# Altium schematic symbol library Amplifier_Current.SchLib: 81 symbols
Pins are listed as number, name and electrical type; pins without a type are passive.

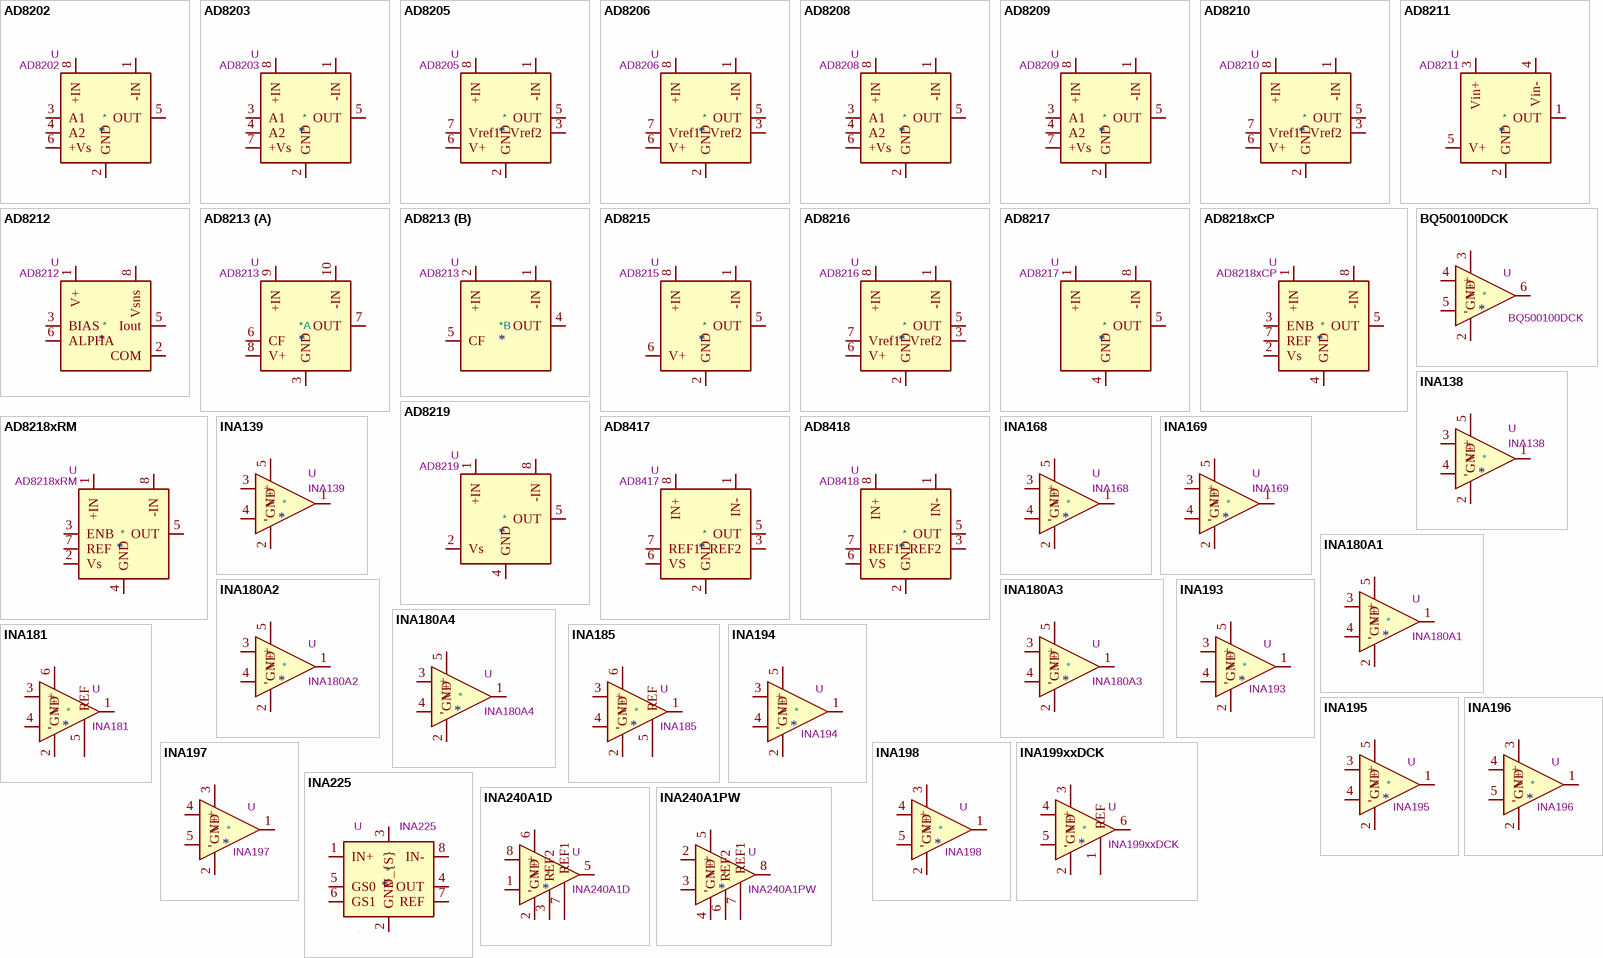
[diagram p0: symbols AD8202 to INA240A1PW]

## AD8202
designator *  value AD8202  Reference: U
ki_keywords: highside HS current sense amplifier linear buffered monitor preamp; ki_description: 28V High Common-Mode Voltage, Single-Supply Difference Amplifier, 10V/V x 2V/V adjustable gain, bandwidth 50kHz, Vcc=3.5V~12V, unidirectional, SOIC-8/MSOP-8; ki_fp_filters: SOIC*P1.27mm* MSOP*P0.65mm*; Datasheet: https://www.analog.com/media/en/technical-documentation/data-sheets/AD8202.pdf
pins: 1 -IN, 2 GND, 3 A1, 4 A2, 5 OUT, 6 +Vs, 7 NC hidden, 8 +IN

## AD8203
designator *  value AD8203  Reference: U
ki_keywords: highside HS current sense amplifier linear buffered monitor preamp; ki_description: 30V High Common-Mode Voltage, Single-Supply Difference Amplifier, 7V/V x 2V/V adjustable gain, bandwidth 60kHz, Vcc=3.5V~12V, unidirectional, SOIC-8/MSOP-8; ki_fp_filters: SOIC*P1.27mm* MSOP*P0.65mm*; Datasheet: https://www.analog.com/media/en/technical-documentation/data-sheets/AD8203.pdf
pins: 1 -IN, 2 GND, 3 A1, 4 A2, 5 OUT, 6 NC hidden, 7 +Vs, 8 +IN

## AD8205
designator *  value AD8205  Reference: U
ki_keywords: highside HS difference amplifier linear buffered; ki_description: 65V Single-Supply, System Difference Amplifier, 50V/V gain, bandwidth 50kHz, Vcc=5V, SOIC-8; ki_fp_filters: SOIC*3.9x4.9mm*P1.27mm*; Footprint: Package_SO:SOIC-8_3.9x4.9mm_P1.27mm; Datasheet: https://www.analog.com/media/en/technical-documentation/data-sheets/AD8205.pdf
pins: 1 -IN, 2 GND, 3 Vref2, 4 NC hidden, 5 OUT, 6 V+, 7 Vref1, 8 +IN

## AD8206
designator *  value AD8206  Reference: U
ki_keywords: highside HS current sense amplifier linear buffered; ki_description: 65V High Common-Mode Voltage, Bidirectional, Current Shunt Amplifier, 20V/V gain, bandwidth 100kHz, Vcc=5V, SOIC-8; ki_fp_filters: SOIC*3.9x4.9mm*P1.27mm*; Footprint: Package_SO:SOIC-8_3.9x4.9mm_P1.27mm; Datasheet: https://www.analog.com/media/en/technical-documentation/data-sheets/AD8206.pdf
pins: 1 -IN, 2 GND, 3 Vref2, 4 NC hidden, 5 OUT, 6 V+, 7 Vref1, 8 +IN

## AD8208
designator *  value AD8208  Reference: U
ki_keywords: highside HS current sense amplifier linear buffered monitor preamp; ki_description: 45V High Voltage, Precision Difference Amplifier, 10V/V x 2V/V adjustable gain, bandwidth 70kHz, Vcc=5V, unidirectional, SOIC-8/MSOP-8; ki_fp_filters: SOIC*P1.27mm* MSOP*P0.65mm*; Datasheet: https://www.analog.com/media/en/technical-documentation/data-sheets/AD8208.pdf
pins: 1 -IN, 2 GND, 3 A1, 4 A2, 5 OUT, 6 +Vs, 7 NC hidden, 8 +IN

## AD8209
designator *  value AD8209  Reference: U
ki_keywords: highside HS current sense amplifier linear buffered monitor preamp; ki_description: 45V High Voltage, Precision Difference Amplifier, 7V/V x 2V/V adjustable gain, bandwidth 80kHz, Vcc=5V, unidirectional, MSOP-8; ki_fp_filters: SOIC*P1.27mm* MSOP*P0.65mm*; Datasheet: https://www.analog.com/media/en/technical-documentation/data-sheets/AD8209.pdf
pins: 1 -IN, 2 GND, 3 A1, 4 A2, 5 OUT, 6 NC hidden, 7 +Vs, 8 +IN

## AD8210
designator *  value AD8210  Reference: U
ki_keywords: highside HS current sense amplifier linear buffered; ki_description: 65V High Voltage, Bidirectional Current Shunt Monitor, 20V/V gain, bandwidth 450kHz, Vcc=5V, SOIC-8; ki_fp_filters: SOIC*3.9x4.9mm*P1.27mm*; Footprint: Package_SO:SOIC-8_3.9x4.9mm_P1.27mm; Datasheet: https://www.analog.com/media/en/technical-documentation/data-sheets/AD8210.pdf
pins: 1 -IN, 2 GND, 3 Vref2, 4 NC hidden, 5 OUT, 6 V+, 7 Vref1, 8 +IN

## AD8211
designator *  value AD8211  Reference: U
ki_keywords: highside HS current sense amplifier linear buffered; ki_description: 65V High Voltage, Current Shunt Monitor, 20V/V gain, bandwidth 500kHz, Vcc=5V, SOT-23-5; ki_fp_filters: SOT?23*; Footprint: Package_TO_SOT_SMD:SOT-23-5; Datasheet: https://www.analog.com/media/en/technical-documentation/data-sheets/AD8211.pdf
pins: 1 OUT, 2 GND, 3 Vin+, 4 Vin-, 5 V+

## AD8212
designator *  value AD8212  Reference: U
ki_keywords: highside HS current sense shunt monitor amplifier linear; ki_description: 65V High Voltage Current, Shunt Monitor, adjustable gain, bandwidth 1000kHz, Vcc=7V~65V, current output, unidirectional, MSOP-8; ki_fp_filters: MSOP*3x3mm*P0.65mm*; Footprint: Package_SO:MSOP-8_3x3mm_P0.65mm; Datasheet: https://www.analog.com/media/en/technical-documentation/data-sheets/AD8212.pdf
pins: 1 V+, 2 COM, 3 BIAS, 4 NC hidden, 5 Iout, 6 ALPHA, 7 NC hidden, 8 Vsns

## AD8213
designator *  value AD8213  Reference: U
ki_keywords: highside HS current sense amplifier linear buffered dual monitor; ki_description: 65V Dual, High Voltage, Current Shunt Monitor, 20V/V gain, bandwidth 500kHz, Vcc=5V, MSOP-10; ki_fp_filters: MSOP*3x3mm*P0.5mm*; Footprint: Package_SO:MSOP-10_3x3mm_P0.5mm; Datasheet: https://www.analog.com/media/en/technical-documentation/data-sheets/AD8213.pdf
part A pins: 3 GND, 6 CF, 7 OUT, 8 V+, 9 +IN, 10 -IN
part B pins: 1 -IN, 2 +IN, 4 OUT, 5 CF

## AD8215
designator *  value AD8215  Reference: U
ki_keywords: highside HS current sense amplifier linear buffered monitor; ki_description: 65V High Voltage, Current Shunt Monitor, 20V/V gain, bandwidth 450kHz, Vcc=5V, unidirectional, SOIC-8; ki_fp_filters: SOIC*3.9x4.9mm*P1.27mm*; Footprint: Package_SO:SOIC-8_3.9x4.9mm_P1.27mm; Datasheet: https://www.analog.com/media/en/technical-documentation/data-sheets/AD8215.pdf
pins: 1 -IN, 2 GND, 3 NC hidden, 4 NC hidden, 5 OUT, 6 V+, 7 NC hidden, 8 +IN

## AD8216
designator *  value AD8216  Reference: U
ki_keywords: HS difference amplifier linear; ki_description: 65V High Bandwidth, Bidirectional Difference Amplifier, 3V/V gain, bandwidth 3MHz, Vcc=5V, SOIC-8; ki_fp_filters: SOIC*3.9x4.9mm*P1.27mm*; Footprint: Package_SO:SOIC-8_3.9x4.9mm_P1.27mm; Datasheet: https://www.analog.com/media/en/technical-documentation/data-sheets/AD8216.pdf
pins: 1 -IN, 2 GND, 3 Vref2, 4 NC hidden, 5 OUT, 6 V+, 7 Vref1, 8 +IN

## AD8217
designator *  value AD8217  Reference: U
ki_keywords: highside HS current sense amplifier linear buffered monitor; ki_description: 80V High Resolution, Zero-Drift, Current Shunt Monitor, 20V/V gain, bandwidth 500kHz, internal LDO, unidirectional, MSOP-8; ki_fp_filters: MSOP*3x3mm*P0.65mm*; Footprint: Package_SO:MSOP-8_3x3mm_P0.65mm; Datasheet: https://www.analog.com/media/en/technical-documentation/data-sheets/AD8217.pdf
pins: 1 +IN, 2 NC hidden, 3 NC hidden, 4 GND, 5 OUT, 6 NC hidden, 7 NC hidden, 8 -IN

## AD8218xCP
designator *  value AD8218xCP  Reference: U
ki_keywords: highside HS current sense amplifier linear buffered; ki_description: 80V Zero Drift, Bidirectional, Current Shunt Monitor, 20V/V gain, bandwidth 450kHz, Vcc=5V, LFCSP-8; ki_fp_filters: LFCSP*1EP*3x2mm*P0.5mm*; Footprint: Package_CSP:LFCSP-8-1EP_3x2mm_P0.5mm_EP1.6x1.65mm; Datasheet: https://www.analog.com/media/en/technical-documentation/data-sheets/AD8218.pdf
pins: 1 +IN, 2 Vs, 3 ENB, 4 GND, 5 OUT, 6 NC hidden, 7 REF, 8 -IN, 9 GND hidden

## AD8218xRM
designator *  value AD8218xRM  Reference: U
ki_keywords: highside HS current sense amplifier linear buffered; ki_description: 80V Zero Drift, Bidirectional, Current Shunt Monitor, 20V/V gain, bandwidth 450kHz, Vcc=5V, MSOP-8; ki_fp_filters: MSOP*3x3mm*P0.65mm*; Footprint: Package_SO:MSOP-8_3x3mm_P0.65mm; Datasheet: https://www.analog.com/media/en/technical-documentation/data-sheets/AD8218.pdf
pins: 1 +IN, 2 Vs, 3 ENB, 4 GND, 5 OUT, 6 NC hidden, 7 REF, 8 -IN

## AD8219
designator *  value AD8219  Reference: U
ki_keywords: highside HS current sense amplifier linear buffered monitor; ki_description: 80V Zero Drift, Unidirectional, Current Shunt Monitor, 60V/V gain, bandwidth 500kHz, Vcc=4V~80V, MSOP-8; ki_fp_filters: MSOP*3x3mm*P0.65mm*; Footprint: Package_SO:MSOP-8_3x3mm_P0.65mm; Datasheet: https://www.analog.com/media/en/technical-documentation/data-sheets/AD8219.pdf
pins: 1 +IN, 2 Vs, 3 NC hidden, 4 GND, 5 OUT, 6 NC hidden, 7 NC hidden, 8 -IN

## AD8417
designator *  value AD8417  Reference: U
ki_keywords: highside HS current sense amplifier linear; ki_description: 70V Bidirectional, Zero Drift, Current Sense Amplifier, 60V/V gain, bandwidth 250kHz, VS=2.7V~5.5V, SOIC-8/MSOP-8; ki_fp_filters: SOIC*3.9x4.9mm*P1.27mm* MSOP*3x3mm*P0.65mm*; Datasheet: https://www.analog.com/media/en/technical-documentation/data-sheets/AD8417.pdf
pins: 1 IN-, 2 GND, 3 REF2, 4 NC hidden, 5 OUT, 6 VS, 7 REF1, 8 IN+

## AD8418
designator *  value AD8418  Reference: U
ki_keywords: highside HS current sense amplifier linear; ki_description: 70V Bidirectional, Zero Drift, Current Sense Amplifier, 20V/V gain, bandwidth 250kHz, VS=2.7V~5.5V, SOIC-8/MSOP-8; ki_fp_filters: SOIC*3.9x4.9mm*P1.27mm* MSOP*3x3mm*P0.65mm*; Datasheet: https://www.analog.com/media/en/technical-documentation/data-sheets/AD8418.pdf
pins: 1 IN-, 2 GND, 3 REF2, 4 NC hidden, 5 OUT, 6 VS, 7 REF1, 8 IN+

## BQ500100DCK
designator *  value BQ500100DCK  Reference: U
ki_keywords: Current shunt monitor; ki_description: 20V High side current sensor, Voltage Output, 50V/V Gain, SC-70-6; ki_fp_filters: SOT?363*; Footprint: Package_TO_SOT_SMD:SOT-363_SC-70-6; Datasheet: http://www.ti.com/lit/ds/symlink/bq500100.pdf
pins: 1 GND hidden, 2 GND, 3 V+, 4 +, 5 -, 6

## INA138
designator *  value INA138  Reference: U
ki_keywords: current sense shunt monitor; ki_description: High-Side Measurement Current Shunt Monitor, 36V, SOT-23-5; ki_fp_filters: SOT?23*; Footprint: Package_TO_SOT_SMD:SOT-23-5; Datasheet: http://www.ti.com/lit/ds/symlink/ina138.pdf
pins: 1, 2 GND, 3 +, 4 -, 5 V+

## INA139
designator *  value INA139  Reference: U
ki_keywords: current sense shunt monitor; ki_description: High-Side Measurement Current Shunt Monitor, 40V, SOT-23-5; ki_fp_filters: SOT?23*; Footprint: Package_TO_SOT_SMD:SOT-23-5; Datasheet: http://www.ti.com/lit/ds/symlink/ina169.pdf
pins: 1, 2 GND, 3 +, 4 -, 5 V+

## INA168
designator *  value INA168  Reference: U
ki_keywords: current sense shunt monitor; ki_description: High-Side Measurement Current Shunt Monitor, 60V, SOT-23-5; ki_fp_filters: SOT?23*; Footprint: Package_TO_SOT_SMD:SOT-23-5; Datasheet: http://www.ti.com/lit/ds/symlink/ina138.pdf
pins: 1, 2 GND, 3 +, 4 -, 5 V+

## INA169
designator *  value INA169  Reference: U
ki_keywords: current sense shunt monitor; ki_description: High-Side Measurement Current Shunt Monitor, 60V, SOT-23-5; ki_fp_filters: SOT?23*; Footprint: Package_TO_SOT_SMD:SOT-23-5; Datasheet: http://www.ti.com/lit/ds/symlink/ina169.pdf
pins: 1, 2 GND, 3 +, 4 -, 5 V+

## INA180A1
designator *  value INA180A1  Reference: U
ki_keywords: current monitor shunt sensor; ki_description: Current Sense Amplifier, 1 Circuit, Rail-to-Rail, 26V, Gain 20 V/V, SOT-23-5; ki_fp_filters: SOT?23*; Footprint: Package_TO_SOT_SMD:SOT-23-5; Datasheet: http://www.ti.com/lit/ds/symlink/ina180.pdf
pins: 1, 2 GND, 3 +, 4 -, 5 V+

## INA180A2
designator *  value INA180A2  Reference: U
ki_keywords: current monitor shunt sensor; ki_description: Current Sense Amplifier, 1 Circuit, Rail-to-Rail, 26V, Gain 50 V/V, SOT-23-5; ki_fp_filters: SOT?23*; Footprint: Package_TO_SOT_SMD:SOT-23-5; Datasheet: http://www.ti.com/lit/ds/symlink/ina180.pdf
pins: 1, 2 GND, 3 +, 4 -, 5 V+

## INA180A3
designator *  value INA180A3  Reference: U
ki_keywords: current monitor shunt sensor; ki_description: Current Sense Amplifier, 1 Circuit, Rail-to-Rail, 26V, Gain 100 V/V, SOT-23-5; ki_fp_filters: SOT?23*; Footprint: Package_TO_SOT_SMD:SOT-23-5; Datasheet: http://www.ti.com/lit/ds/symlink/ina180.pdf
pins: 1, 2 GND, 3 +, 4 -, 5 V+

## INA180A4
designator *  value INA180A4  Reference: U
ki_keywords: current monitor shunt sensor; ki_description: Current Sense Amplifier, 1 Circuit, Rail-to-Rail, 26V, Gain 200 V/V, SOT-23-5; ki_fp_filters: SOT?23*; Footprint: Package_TO_SOT_SMD:SOT-23-5; Datasheet: http://www.ti.com/lit/ds/symlink/ina180.pdf
pins: 1, 2 GND, 3 +, 4 -, 5 V+

## INA181
designator *  value INA181  Reference: U
ki_keywords: current monitor shunt sensor bidirectional; ki_description: Bidirectional, Low- and High-Side Voltage Output, Current-Sense Amplifier, SOT-23-6; ki_fp_filters: SOT?23*; Footprint: Package_TO_SOT_SMD:SOT-23-6; Datasheet: http://www.ti.com/lit/ds/symlink/ina181.pdf
pins: 1, 2 GND, 3 +, 4 -, 5 REF, 6 V+

## INA185
designator *  value INA185  Reference: U
ki_keywords: current monitor shunt sensor bidirectional; ki_description: Ultra-small, bidirectional, precision low-side and high-side, voltage output current-sense amplifier (SOT-563); ki_fp_filters: SOT*563*; Footprint: Package_TO_SOT_SMD:SOT-563; Datasheet: https://www.ti.com/lit/ds/symlink/ina185.pdf
pins: 1, 2 GND, 3 +, 4 -, 5 REF, 6 V+

## INA193
designator *  value INA193  Reference: U
ki_keywords: current sense shunt monitor; ki_description: Current Shunt Monitor −16V to +80V Common-Mode Range, 20V/V, SOT-23-5; ki_fp_filters: SOT?23*; Footprint: Package_TO_SOT_SMD:SOT-23-5; Datasheet: http://www.ti.com/lit/ds/symlink/ina193.pdf
pins: 1, 2 GND, 3 +, 4 -, 5 V+

## INA194
designator *  value INA194  Reference: U
ki_keywords: current sense shunt monitor; ki_description: Current Shunt Monitor −16V to +80V Common-Mode Range, 50V/V, SOT-23-5; ki_fp_filters: SOT?23*; Footprint: Package_TO_SOT_SMD:SOT-23-5; Datasheet: http://www.ti.com/lit/ds/symlink/ina193.pdf
pins: 1, 2 GND, 3 +, 4 -, 5 V+

## INA195
designator *  value INA195  Reference: U
ki_keywords: current sense shunt monitor; ki_description: Current Shunt Monitor −16V to +80V Common-Mode Range, 100V/V, SOT-23-5; ki_fp_filters: SOT?23*; Footprint: Package_TO_SOT_SMD:SOT-23-5; Datasheet: http://www.ti.com/lit/ds/symlink/ina193.pdf
pins: 1, 2 GND, 3 +, 4 -, 5 V+

## INA196
designator *  value INA196  Reference: U
ki_keywords: current sense shunt monitor; ki_description: Current Shunt Monitor −16V to +80V Common-Mode Range, 20V/V, SOT-23-5; ki_fp_filters: SOT?23*; Footprint: Package_TO_SOT_SMD:SOT-23-5; Datasheet: http://www.ti.com/lit/ds/symlink/ina193.pdf
pins: 1, 2 GND, 3 V+, 4 +, 5 -

## INA197
designator *  value INA197  Reference: U
ki_keywords: current sense shunt monitor; ki_description: Current Shunt Monitor −16V to +80V Common-Mode Range, 50V/V, SOT-23-5; ki_fp_filters: SOT?23*; Footprint: Package_TO_SOT_SMD:SOT-23-5; Datasheet: http://www.ti.com/lit/ds/symlink/ina193.pdf
pins: 1, 2 GND, 3 V+, 4 +, 5 -

## INA198
designator *  value INA198  Reference: U
ki_keywords: current sense shunt monitor; ki_description: Current Shunt Monitor −16V to +80V Common-Mode Range, 100V/V, SOT-23-5; ki_fp_filters: SOT?23*; Footprint: Package_TO_SOT_SMD:SOT-23-5; Datasheet: http://www.ti.com/lit/ds/symlink/ina193.pdf
pins: 1, 2 GND, 3 V+, 4 +, 5 -

## INA199xxDCK
designator *  value INA199xxDCK  Reference: U
ki_keywords: current monitor shunt sensor bidirectional; ki_description: INA199 26-V, Bidirectional, Zero-Drift, Low- or High-Side, Voltage-Output, Current-Shunt Monitor, SOT-363, SC-70; ki_fp_filters: *SC?70*; Footprint: Package_TO_SOT_SMD:SOT-363_SC-70-6; Datasheet: http://www.ti.com/lit/ds/symlink/ina199.pdf
pins: 1 REF, 2 GND, 3 V+, 4 +, 5 -, 6

## INA225
designator *  value INA225  Reference: U
ki_keywords: voltage-output current-sense amplifier shunt; ki_description: 36-V, Bidirectional Current Sense Amplifier, With Four Pin-Selectable Gain Settings, VSSOP-8; ki_fp_filters: VSSOP*3.0x3.0mm*P0.65mm*; Footprint: Package_SO:VSSOP-8_3.0x3.0mm_P0.65mm; Datasheet: https://www.ti.com/lit/ds/symlink/ina225-q1.pdf
pins: 1 IN+, 2 GND, 3 V_{S}, 4 OUT, 5 GS0, 6 GS1, 7 REF, 8 IN-

## INA240A1D
designator *  value INA240A1D  Reference: U
ki_keywords: current monitor shunt sensor bidirectional high low; ki_description: High- and Low-Side, Bidirectional, Zero-Drift, Current-Sense Amplifier With Enhanced PWM Rejection, 20V/V, SOIC-8; ki_fp_filters: SOIC*3.9x4.9mm*P1.27mm*; Footprint: Package_SO:SOIC-8_3.9x4.9mm_P1.27mm; Datasheet: http://www.ti.com/lit/ds/symlink/ina240.pdf
pins: 1 -, 2 GND, 3 REF2, 4 GND hidden, 5, 6 V+, 7 REF1, 8 +

## INA240A1PW
designator *  value INA240A1PW  Reference: U
ki_keywords: current monitor shunt sensor bidirectional high low; ki_description: High- and Low-Side, Bidirectional, Zero-Drift, Current-Sense Amplifier With Enhanced PWM Rejection, 20V/V, TSSOP-8; ki_fp_filters: TSSOP*4.4x3mm*P0.65mm*; Footprint: Package_SO:TSSOP-8_4.4x3mm_P0.65mm; Datasheet: http://www.ti.com/lit/ds/symlink/ina240.pdf
pins: 1 GND hidden, 2 +, 3 -, 4 GND, 5 V+, 6 REF2, 7 REF1, 8

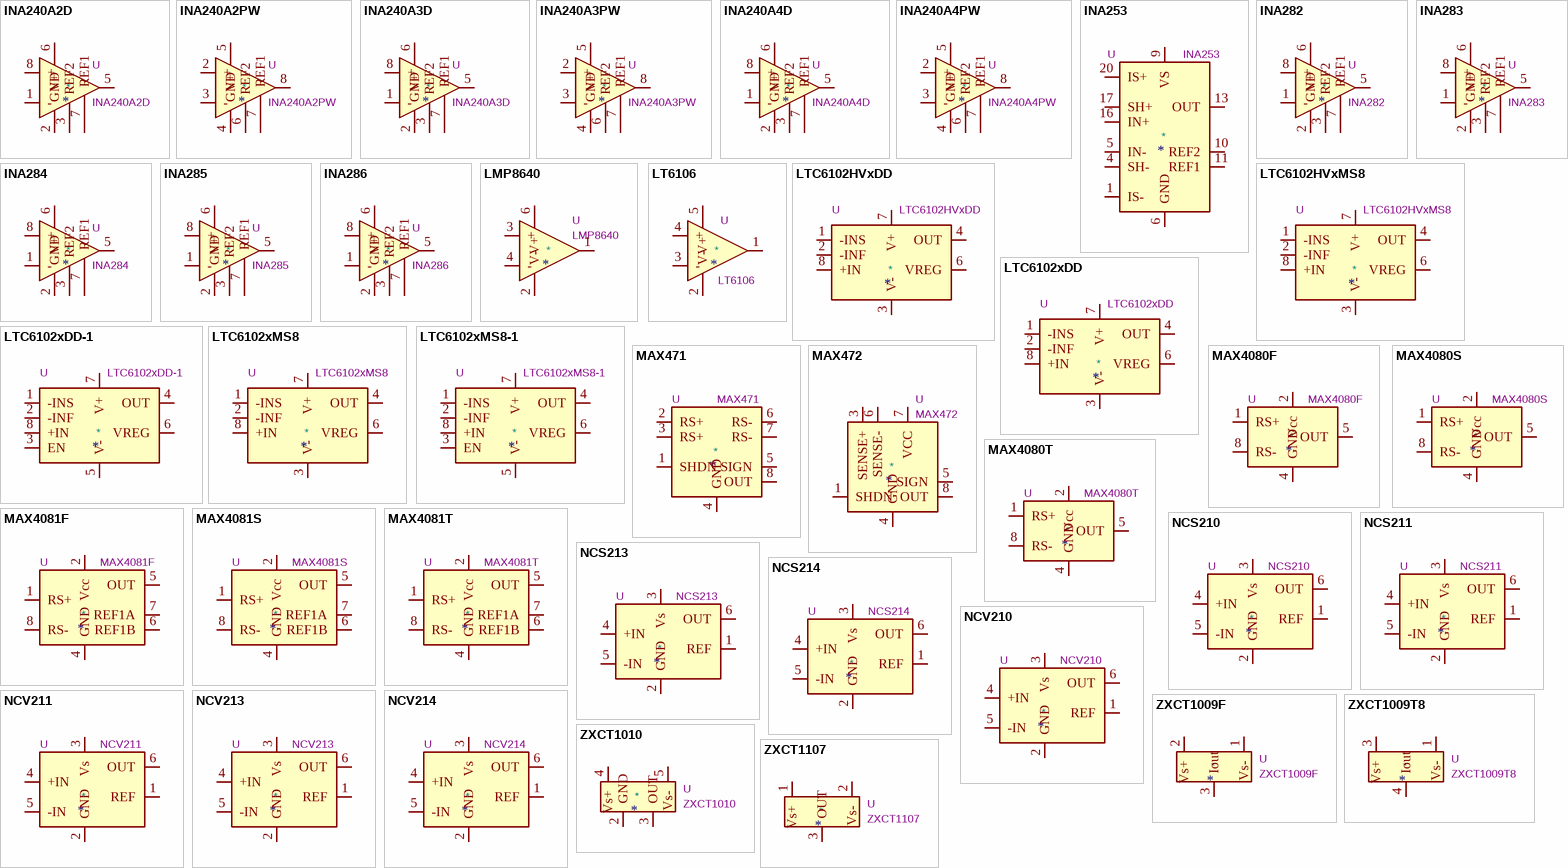
[diagram p1: symbols INA240A2D to ZXCT1107]

## INA240A2D
designator *  value INA240A2D  Reference: U
ki_keywords: current monitor shunt sensor bidirectional high low; ki_description: High- and Low-Side, Bidirectional, Zero-Drift, Current-Sense Amplifier With Enhanced PWM Rejection, 50V/V, SOIC-8; ki_fp_filters: SOIC*3.9x4.9mm*P1.27mm*; Footprint: Package_SO:SOIC-8_3.9x4.9mm_P1.27mm; Datasheet: http://www.ti.com/lit/ds/symlink/ina240.pdf
pins: 1 -, 2 GND, 3 REF2, 4 GND hidden, 5, 6 V+, 7 REF1, 8 +

## INA240A2PW
designator *  value INA240A2PW  Reference: U
ki_keywords: current monitor shunt sensor bidirectional high low; ki_description: High- and Low-Side, Bidirectional, Zero-Drift, Current-Sense Amplifier With Enhanced PWM Rejection, 50V/V, TSSOP-8; ki_fp_filters: TSSOP*4.4x3mm*P0.65mm*; Footprint: Package_SO:TSSOP-8_4.4x3mm_P0.65mm; Datasheet: http://www.ti.com/lit/ds/symlink/ina240.pdf
pins: 1 GND hidden, 2 +, 3 -, 4 GND, 5 V+, 6 REF2, 7 REF1, 8

## INA240A3D
designator *  value INA240A3D  Reference: U
ki_keywords: current monitor shunt sensor bidirectional high low; ki_description: High- and Low-Side, Bidirectional, Zero-Drift, Current-Sense Amplifier With Enhanced PWM Rejection, 100V/V, SOIC-8; ki_fp_filters: SOIC*3.9x4.9mm*P1.27mm*; Footprint: Package_SO:SOIC-8_3.9x4.9mm_P1.27mm; Datasheet: http://www.ti.com/lit/ds/symlink/ina240.pdf
pins: 1 -, 2 GND, 3 REF2, 4 GND hidden, 5, 6 V+, 7 REF1, 8 +

## INA240A3PW
designator *  value INA240A3PW  Reference: U
ki_keywords: current monitor shunt sensor bidirectional high low; ki_description: High- and Low-Side, Bidirectional, Zero-Drift, Current-Sense Amplifier With Enhanced PWM Rejection, 100V/V, TSSOP-8; ki_fp_filters: TSSOP*4.4x3mm*P0.65mm*; Footprint: Package_SO:TSSOP-8_4.4x3mm_P0.65mm; Datasheet: http://www.ti.com/lit/ds/symlink/ina240.pdf
pins: 1 GND hidden, 2 +, 3 -, 4 GND, 5 V+, 6 REF2, 7 REF1, 8

## INA240A4D
designator *  value INA240A4D  Reference: U
ki_keywords: current monitor shunt sensor bidirectional high low; ki_description: High- and Low-Side, Bidirectional, Zero-Drift, Current-Sense Amplifier With Enhanced PWM Rejection, 200V/V, SOIC-8; ki_fp_filters: SOIC*3.9x4.9mm*P1.27mm*; Footprint: Package_SO:SOIC-8_3.9x4.9mm_P1.27mm; Datasheet: http://www.ti.com/lit/ds/symlink/ina240.pdf
pins: 1 -, 2 GND, 3 REF2, 4 GND hidden, 5, 6 V+, 7 REF1, 8 +

## INA240A4PW
designator *  value INA240A4PW  Reference: U
ki_keywords: current monitor shunt sensor bidirectional high low; ki_description: High- and Low-Side, Bidirectional, Zero-Drift, Current-Sense Amplifier With Enhanced PWM Rejection, 200V/V, TSSOP-8; ki_fp_filters: TSSOP*4.4x3mm*P0.65mm*; Footprint: Package_SO:TSSOP-8_4.4x3mm_P0.65mm; Datasheet: http://www.ti.com/lit/ds/symlink/ina240.pdf
pins: 1 GND hidden, 2 +, 3 -, 4 GND, 5 V+, 6 REF2, 7 REF1, 8

## INA253
designator *  value INA253  Reference: U
ki_keywords: shunt current amplifier bidirectional; ki_description: High Voltage, Bidirectional, Zero-Drift, Current-ShuntMonitor With Integrated, 2-mΩ, Precision, Low Inductive Shunt Resistor, TSSOP-20; ki_fp_filters: TSSOP*4.4x6.5mm*P0.65mm*; Footprint: Package_SO:TSSOP-20_4.4x6.5mm_P0.65mm; Datasheet: http://www.ti.com/lit/ds/symlink/ina253.pdf
pins: 1 IS-, 2 IS- hidden, 3 IS- hidden, 4 SH-, 5 IN-, 6 GND, 7 DNC1 hidden, 8 NC hidden, 9 VS, 10 REF2, 11 REF1, 12 NC hidden, 13 OUT, 14 DNC2 hidden, 15 GND hidden, 16 IN+, 17 SH+, 18 IS+ hidden, 19 IS+ hidden, 20 IS+

## INA282
designator *  value INA282  Reference: U
ki_keywords: current monitor shunt sensor bidirectional; ki_description: High-Accuracy, Wide Common-Mode Range, Bidirectional Current Shunt Monitors, Zero-Drift Series, 50V/V, SOIC-8/VSSOP-8; ki_fp_filters: SOIC*3.9x4.9mm*P1.27mm* MSOP*3x3mm*P0.65mm*; Datasheet: http://www.ti.com/lit/ds/symlink/ina282.pdf
pins: 1 -, 2 GND, 3 REF2, 4 NC hidden, 5, 6 V+, 7 REF1, 8 +

## INA283
designator *  value INA283  Reference: U
ki_keywords: current monitor shunt sensor bidirectional; ki_description: High-Accuracy, Wide Common-Mode Range, Bidirectional Current Shunt Monitors, Zero-Drift Series, 200V/V, SOIC-8/VSSOP-8; ki_fp_filters: SOIC*3.9x4.9mm*P1.27mm* MSOP*3x3mm*P0.65mm*; Datasheet: http://www.ti.com/lit/ds/symlink/ina282.pdf
pins: 1 -, 2 GND, 3 REF2, 4 NC hidden, 5, 6 V+, 7 REF1, 8 +

## INA284
designator *  value INA284  Reference: U
ki_keywords: current monitor shunt sensor bidirectional; ki_description: High-Accuracy, Wide Common-Mode Range, Bidirectional Current Shunt Monitors, Zero-Drift Series, 500V/V, SOIC-8/VSSOP-8; ki_fp_filters: SOIC*3.9x4.9mm*P1.27mm* MSOP*3x3mm*P0.65mm*; Datasheet: http://www.ti.com/lit/ds/symlink/ina282.pdf
pins: 1 -, 2 GND, 3 REF2, 4 NC hidden, 5, 6 V+, 7 REF1, 8 +

## INA285
designator *  value INA285  Reference: U
ki_keywords: current monitor shunt sensor bidirectional; ki_description: High-Accuracy, Wide Common-Mode Range, Bidirectional Current Shunt Monitors, Zero-Drift Series, 1000V/V, SOIC-8/VSSOP-8; ki_fp_filters: SOIC*3.9x4.9mm*P1.27mm* MSOP*3x3mm*P0.65mm*; Datasheet: http://www.ti.com/lit/ds/symlink/ina282.pdf
pins: 1 -, 2 GND, 3 REF2, 4 NC hidden, 5, 6 V+, 7 REF1, 8 +

## INA286
designator *  value INA286  Reference: U
ki_keywords: current monitor shunt sensor bidirectional; ki_description: High-Accuracy, Wide Common-Mode Range, Bidirectional Current Shunt Monitors, Zero-Drift Series, 100V/V, SOIC-8/VSSOP-8; ki_fp_filters: SOIC*3.9x4.9mm*P1.27mm* MSOP*3x3mm*P0.65mm*; Datasheet: http://www.ti.com/lit/ds/symlink/ina282.pdf
pins: 1 -, 2 GND, 3 REF2, 4 NC hidden, 5, 6 V+, 7 REF1, 8 +

## LMP8640
designator *  value LMP8640  Reference: U
ki_keywords: current monitor shunt sensor; ki_description: Precision High Voltage Current Sense Amplifiers, 42V/76V, SOT-23-6; ki_fp_filters: SOT?23*; Footprint: Package_TO_SOT_SMD:SOT-23-6; Datasheet: http://www.ti.com/lit/ds/symlink/lmp8640.pdf
pins: 1, 2 V-, 3 +, 4 -, 6 V+

## LT6106
designator *  value LT6106  Reference: U
ki_keywords: current sense; ki_description: 36V Low Cost, High Side Current Sense, SOT-23-5; ki_fp_filters: SOT?23*; Footprint: Package_TO_SOT_SMD:SOT-23-5; Datasheet: https://www.analog.com/media/en/technical-documentation/data-sheets/6106fb.pdf
pins: 1, 2 V-, 3 -, 4 +, 5 V+

## LTC6102HVxDD
designator *  value LTC6102HVxDD  Reference: U
ki_keywords: current sense amplifier; ki_description: Precision Zero Drift Current Sense Amplifier, 100V, DFN-8; ki_fp_filters: DFN*3x3mm*P0.5mm*; Footprint: Package_DFN_QFN:DFN-8-1EP_3x3mm_P0.5mm_EP1.66x2.38mm; Datasheet: https://www.analog.com/media/en/technical-documentation/data-sheets/6102fe.pdf
pins: 1 -INS, 2 -INF, 3 V-, 4 OUT, 5 V- hidden, 6 VREG, 7 V+, 8 +IN, 9 V- hidden

## LTC6102HVxMS8
designator *  value LTC6102HVxMS8  Reference: U
ki_keywords: current sense amplifier; ki_description: Precision Zero Drift Current Sense Amplifier, 100V, MSOP-8; ki_fp_filters: MSOP*3x3mm*P0.65mm*; Footprint: Package_SO:MSOP-8_3x3mm_P0.65mm; Datasheet: https://www.analog.com/media/en/technical-documentation/data-sheets/6102fe.pdf
pins: 1 -INS, 2 -INF, 3 V-, 4 OUT, 5 V- hidden, 6 VREG, 7 V+, 8 +IN

## LTC6102xDD
designator *  value LTC6102xDD  Reference: U
ki_keywords: current sense amplifier; ki_description: Precision Zero Drift Current Sense Amplifier, 60V, DFN-8; ki_fp_filters: DFN*3x3mm*P0.5mm*; Footprint: Package_DFN_QFN:DFN-8-1EP_3x3mm_P0.5mm_EP1.66x2.38mm; Datasheet: https://www.analog.com/media/en/technical-documentation/data-sheets/6102fe.pdf
pins: 1 -INS, 2 -INF, 3 V-, 4 OUT, 5 V- hidden, 6 VREG, 7 V+, 8 +IN, 9 V- hidden

## LTC6102xDD-1
designator *  value LTC6102xDD-1  Reference: U
ki_keywords: current sense amplifier; ki_description: Precision Zero Drift Current Sense Amplifier, 60V, DFN-8; ki_fp_filters: DFN*3x3mm*P0.5mm*; Footprint: Package_DFN_QFN:DFN-8-1EP_3x3mm_P0.5mm_EP1.66x2.38mm; Datasheet: https://www.analog.com/media/en/technical-documentation/data-sheets/6102fe.pdf
pins: 1 -INS, 2 -INF, 3 EN, 4 OUT, 5 V-, 6 VREG, 7 V+, 8 +IN, 9 V- hidden

## LTC6102xMS8
designator *  value LTC6102xMS8  Reference: U
ki_keywords: current sense amplifier; ki_description: Precision Zero Drift Current Sense Amplifier, 60V, MSOP-8; ki_fp_filters: MSOP*3x3mm*P0.65mm*; Footprint: Package_SO:MSOP-8_3x3mm_P0.65mm; Datasheet: https://www.analog.com/media/en/technical-documentation/data-sheets/6102fe.pdf
pins: 1 -INS, 2 -INF, 3 V-, 4 OUT, 5 V- hidden, 6 VREG, 7 V+, 8 +IN

## LTC6102xMS8-1
designator *  value LTC6102xMS8-1  Reference: U
ki_keywords: current sense amplifier; ki_description: Precision Zero Drift Current Sense Amplifier, 60V, MSOP-8; ki_fp_filters: MSOP*3x3mm*P0.65mm*; Footprint: Package_SO:MSOP-8_3x3mm_P0.65mm; Datasheet: https://www.analog.com/media/en/technical-documentation/data-sheets/6102fe.pdf
pins: 1 -INS, 2 -INF, 3 EN, 4 OUT, 5 V-, 6 VREG, 7 V+, 8 +IN

## MAX471
designator *  value MAX471  Reference: U
ki_keywords: current sense amplifier; ki_description: Precision, High-Side, Current-Sense Amplifiers, DIP-8/SOIC-8; ki_fp_filters: SOIC*3.9x4.9mm*P1.27mm* DIP*W7.62mm*; Datasheet: http://pdfserv.maximintegrated.com/en/ds/MAX471-MAX472.pdf
pins: 1 SHDN, 2 RS+, 3 RS+, 4 GND, 5 SIGN, 6 RS-, 7 RS-, 8 OUT

## MAX472
designator *  value MAX472  Reference: U
ki_keywords: current sense amplifier; ki_description: Precision, High-Side, Current-Sense Amplifiers, DIP-8/SOIC-8; ki_fp_filters: SOIC*3.9x4.9mm*P1.27mm* DIP*W7.62mm*; Datasheet: http://pdfserv.maximintegrated.com/en/ds/MAX471-MAX472.pdf
pins: 1 SHDN, 2 NC hidden, 3 SENSE+, 4 GND, 5 SIGN, 6 SENSE-, 7 VCC, 8 OUT

## MAX4080F
designator *  value MAX4080F  Reference: U
ki_keywords: current sense amplifier; ki_description: 76V, High-Side, Current-Sense Amplifiers with Voltage Output, Unidirectional, 5V/V Gain, SOIC-8/uMAX-8; ki_fp_filters: SOIC*3.9x4.9mm*P1.27mm* MSOP*3x3mm*P0.65mm*; Datasheet: http://datasheets.maximintegrated.com/en/ds/MAX4080-MAX4081.pdf
pins: 1 RS+, 2 Vcc, 3 NC hidden, 4 GND, 5 OUT, 6 NC hidden, 7 NC hidden, 8 RS-

## MAX4080S
designator *  value MAX4080S  Reference: U
ki_keywords: current sense amplifier; ki_description: 76V, High-Side, Current-Sense Amplifiers with Voltage Output, Undirectional, 60V/V Gain, SOIC-8/uMAX-8; ki_fp_filters: SOIC*3.9x4.9mm*P1.27mm* MSOP*3x3mm*P0.65mm*; Datasheet: http://datasheets.maximintegrated.com/en/ds/MAX4080-MAX4081.pdf
pins: 1 RS+, 2 Vcc, 3 NC hidden, 4 GND, 5 OUT, 6 NC hidden, 7 NC hidden, 8 RS-

## MAX4080T
designator *  value MAX4080T  Reference: U
ki_keywords: current sense amplifier; ki_description: 76V, High-Side, Current-Sense Amplifiers with Voltage Output, Unidirectional, 20V/V Gain, SOIC-8/uMAX-8; ki_fp_filters: SOIC*3.9x4.9mm*P1.27mm* MSOP*3x3mm*P0.65mm*; Datasheet: http://datasheets.maximintegrated.com/en/ds/MAX4080-MAX4081.pdf
pins: 1 RS+, 2 Vcc, 3 NC hidden, 4 GND, 5 OUT, 6 NC hidden, 7 NC hidden, 8 RS-

## MAX4081F
designator *  value MAX4081F  Reference: U
ki_keywords: current sense amplifier; ki_description: 76V, High-Side, Current-Sense Amplifiers with Voltage Output, Bidirectional, 5V/V Gain, SOIC-8/uMAX-8; ki_fp_filters: SOIC*3.9x4.9mm*P1.27mm* MSOP*3x3mm*P0.65mm*; Datasheet: http://datasheets.maximintegrated.com/en/ds/MAX4080-MAX4081.pdf
pins: 1 RS+, 2 Vcc, 3 NC hidden, 4 GND, 5 OUT, 6 REF1B, 7 REF1A, 8 RS-

## MAX4081S
designator *  value MAX4081S  Reference: U
ki_keywords: current sense amplifier; ki_description: 76V, High-Side, Current-Sense Amplifiers with Voltage Outpute, Bidirectional, 60V/V Gain, SOIC-8/uMAX-8; ki_fp_filters: SOIC*3.9x4.9mm*P1.27mm* MSOP*3x3mm*P0.65mm*; Datasheet: http://datasheets.maximintegrated.com/en/ds/MAX4080-MAX4081.pdf
pins: 1 RS+, 2 Vcc, 3 NC hidden, 4 GND, 5 OUT, 6 REF1B, 7 REF1A, 8 RS-

## MAX4081T
designator *  value MAX4081T  Reference: U
ki_keywords: current sense amplifier; ki_description: 76V, High-Side, Current-Sense Amplifiers with Voltage Output, Bidirectional, 20V/V Gain, SOIC-8/uMAX-8; ki_fp_filters: SOIC*3.9x4.9mm*P1.27mm* MSOP*3x3mm*P0.65mm*; Datasheet: http://datasheets.maximintegrated.com/en/ds/MAX4080-MAX4081.pdf
pins: 1 RS+, 2 Vcc, 3 NC hidden, 4 GND, 5 OUT, 6 REF1B, 7 REF1A, 8 RS-

## NCS210
designator *  value NCS210  Reference: U
ki_keywords: Current shunt monitor; ki_description: Current-Shunt Monitor, Voltage Output, Bi-Directional Zero-Drift, 200V/V Gain, SC-70-6; ki_fp_filters: *SC?70*; Footprint: Package_TO_SOT_SMD:SOT-363_SC-70-6; Datasheet: https://www.onsemi.com/pub/Collateral/NCS210R-D.PDF
pins: 1 REF, 2 GND, 3 Vs, 4 +IN, 5 -IN, 6 OUT

## NCS211
designator *  value NCS211  Reference: U
ki_keywords: Current shunt monitor; ki_description: Current-Shunt Monitor, Voltage Output, Bi-Directional Zero-Drift, 500V/V Gain, SC-70-6; ki_fp_filters: *SC?70*; Footprint: Package_TO_SOT_SMD:SOT-363_SC-70-6; Datasheet: https://www.onsemi.com/pub/Collateral/NCS210R-D.PDF
pins: 1 REF, 2 GND, 3 Vs, 4 +IN, 5 -IN, 6 OUT

## NCS213
designator *  value NCS213  Reference: U
ki_keywords: Current shunt monitor; ki_description: Current-Shunt Monitor, Voltage Output, Bi-Directional Zero-Drift, 50V/V Gain, SC-70-6; ki_fp_filters: *SC?70*; Footprint: Package_TO_SOT_SMD:SOT-363_SC-70-6; Datasheet: https://www.onsemi.com/pub/Collateral/NCS210R-D.PDF
pins: 1 REF, 2 GND, 3 Vs, 4 +IN, 5 -IN, 6 OUT

## NCS214
designator *  value NCS214  Reference: U
ki_keywords: Current shunt monitor; ki_description: Current-Shunt Monitor, Voltage Output, Bi-Directional Zero-Drift, 100V/V Gain, SC-70-6; ki_fp_filters: *SC?70*; Footprint: Package_TO_SOT_SMD:SOT-363_SC-70-6; Datasheet: https://www.onsemi.com/pub/Collateral/NCS210R-D.PDF
pins: 1 REF, 2 GND, 3 Vs, 4 +IN, 5 -IN, 6 OUT

## NCV210
designator *  value NCV210  Reference: U
ki_keywords: Current shunt monitor; ki_description: Current-Shunt Monitor, Voltage Output, Bi-Directional Zero-Drift, 200V/V Gain, SC-70-6; ki_fp_filters: *SC?70*; Footprint: Package_TO_SOT_SMD:SOT-363_SC-70-6; Datasheet: https://www.onsemi.com/pub/Collateral/NCS210R-D.PDF
pins: 1 REF, 2 GND, 3 Vs, 4 +IN, 5 -IN, 6 OUT

## NCV211
designator *  value NCV211  Reference: U
ki_keywords: Current shunt monitor; ki_description: Current-Shunt Monitor, Voltage Output, Bi-Directional Zero-Drift, 500V/V Gain, SC-70-6; ki_fp_filters: *SC?70*; Footprint: Package_TO_SOT_SMD:SOT-363_SC-70-6; Datasheet: https://www.onsemi.com/pub/Collateral/NCS210R-D.PDF
pins: 1 REF, 2 GND, 3 Vs, 4 +IN, 5 -IN, 6 OUT

## NCV213
designator *  value NCV213  Reference: U
ki_keywords: Current shunt monitor; ki_description: Current-Shunt Monitor, Voltage Output, Bi-Directional Zero-Drift, 50V/V Gain, SC-70-6; ki_fp_filters: *SC?70*; Footprint: Package_TO_SOT_SMD:SOT-363_SC-70-6; Datasheet: https://www.onsemi.com/pub/Collateral/NCS210R-D.PDF
pins: 1 REF, 2 GND, 3 Vs, 4 +IN, 5 -IN, 6 OUT

## NCV214
designator *  value NCV214  Reference: U
ki_keywords: Current shunt monitor; ki_description: Current-Shunt Monitor, Voltage Output, Bi-Directional Zero-Drift, 100V/V Gain, SC-70-6; ki_fp_filters: *SC?70*; Footprint: Package_TO_SOT_SMD:SOT-363_SC-70-6; Datasheet: https://www.onsemi.com/pub/Collateral/NCS210R-D.PDF
pins: 1 REF, 2 GND, 3 Vs, 4 +IN, 5 -IN, 6 OUT

## ZXCT1009F
designator *  value ZXCT1009F  Reference: U
ki_keywords: High side current monitor shunt; ki_description: High-Side Current Monitor, SOT-23; ki_fp_filters: SOT?23*; Footprint: Package_TO_SOT_SMD:SOT-23; Datasheet: https://www.diodes.com/assets/Datasheets/ZXCT1009.pdf
pins: 1 Vs-, 2 Vs+, 3 Iout

## ZXCT1009T8
designator *  value ZXCT1009T8  Reference: U
ki_keywords: High side current monitor shunt; ki_description: High-Side Current Monitor, SM8; ki_fp_filters: Zetex*SM8*; Footprint: Package_SO:Zetex_SM8; Datasheet: https://www.diodes.com/assets/Datasheets/ZXCT1009.pdf
pins: 1 Vs-, 2 NC hidden, 3 Vs+, 4 Iout, 5 NC hidden, 6 NC hidden, 7 NC hidden, 8 NC hidden

## ZXCT1010
designator *  value ZXCT1010  Reference: U
ki_keywords: High side current monitor shunt; ki_description: Enhanced High-Side Current Monitors, SOT-23-5; ki_fp_filters: SOT?23*; Footprint: Package_TO_SOT_SMD:SOT-23-5; Datasheet: https://www.diodes.com/assets/Datasheets/ZXCT1010.pdf
pins: 1 NC hidden, 2 GND, 3 OUT, 4 Vs+, 5 Vs-

## ZXCT1107
designator *  value ZXCT1107  Reference: U
ki_keywords: High side current monitor shunt; ki_description: Low Power High-Side Current Monitors, SOT-23; ki_fp_filters: SOT?23*; Footprint: Package_TO_SOT_SMD:SOT-23; Datasheet: https://www.diodes.com/assets/Datasheets/ZXCT1107_10.pdf
pins: 1 Vs+, 2 Vs-, 3 OUT

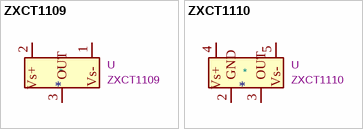
[diagram p2: symbols ZXCT1109 to ZXCT1110]

## ZXCT1109
designator *  value ZXCT1109  Reference: U
ki_keywords: High side current monitor shunt; ki_description: Low Power High-Side Current Monitors, SOT-23; ki_fp_filters: SOT?23*; Footprint: Package_TO_SOT_SMD:SOT-23; Datasheet: https://www.diodes.com/assets/Datasheets/ZXCT1107_10.pdf
pins: 1 Vs-, 2 Vs+, 3 OUT

## ZXCT1110
designator *  value ZXCT1110  Reference: U
ki_keywords: High side current monitor shunt; ki_description: Low Power High-Side Current Monitors, SOT-23-5; ki_fp_filters: SOT?23*; Footprint: Package_TO_SOT_SMD:SOT-23-5; Datasheet: https://www.diodes.com/assets/Datasheets/ZXCT1107_10.pdf
pins: 1 NC hidden, 2 GND, 3 OUT, 4 Vs+, 5 Vs-